# EAGLE library part STD020M03X2 (library con-pinheader-standard)
male standard header 2mm
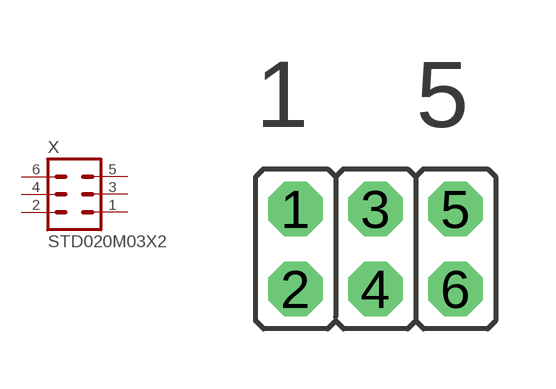
[diagram p51: symbol with the pads of STD020M03X2-2.00; footprint STD020M03X2-2.00]

Designator prefix X

## STD020M03X2-2.00MM  [STD020M03X2-2.00]
1  1  pas
2  2  pas
3  3  pas
4  4  pas
5  5  pas
6  6  pas

## Footprint STD020M03X2-2.00 (pad centres in mm)
male standard header 2mm
drill 0.85 octagon: 1 -2,1; 2 -2,-1; 3 0,1; 4 0,-1; 5 2,1; 6 2,-1